# Altium footprint library ACPL-K376-500E.PcbLib: 1 footprints
Each footprint in its own frame and in the unit in brackets; x right, y up, seen from the top. Pads: shape width x height; smd on the part's side, far side on the other; paste and mask are expansions set on the pad; w line width, h text height; cw(c..) or ccw(c..) is an arc to the next point about the centre after c.
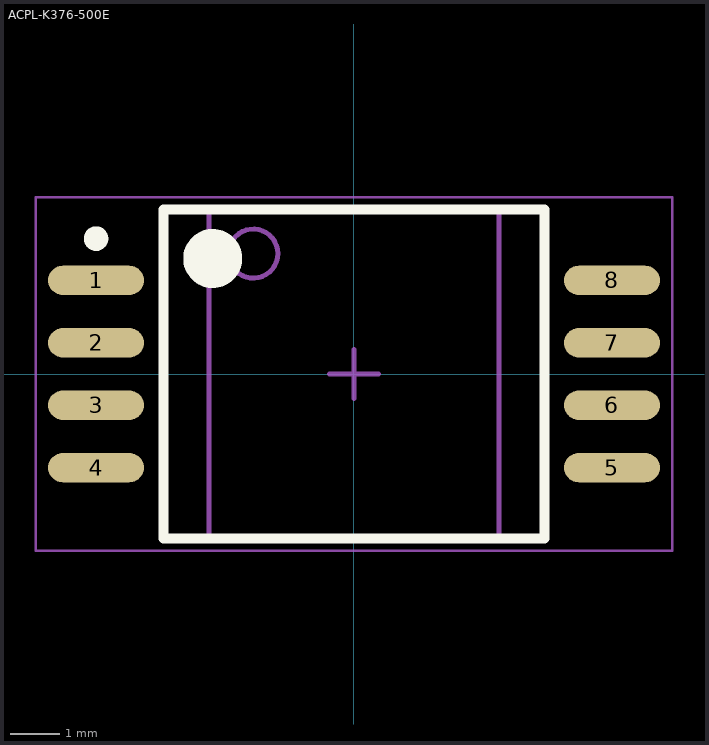
[diagram p0: the footprint, top view; thin cyan lines are the x and y axes]

## ACPL-K376-500E [mm] "SOIC, 8-Leads, Body 6.81x5.85mm, Pitch 1.27mm, IPC Medium Density"
height 3.31
pads (8):
  oval 1.95x0.6 smd: 1(-5.25,1.905) 2(-5.25,0.635) 3(-5.25,-0.635) 4(-5.25,-1.905) 5(5.25,-1.905) 6(5.25,-0.635) 7(5.25,0.635) 8(5.25,1.905)
Top Overlay:
  circle w0.6: c-2.875,2.35 r0.3
  circle w0.25: c-5.25,2.755 r0.125
  lines w0.2: -3.875,-3.35 3.875,-3.35 3.875,3.35 -3.875,3.35 -3.875,-3.35
Mechanical 13:
  circle w0.1: c-2.05,2.45 r0.5
  lines w0.1: -2.95,-3.35 2.95,-3.35 2.95,3.35 -2.95,3.35 -2.95,-3.35
Mechanical 15:
  lines w0.05: -6.475,-3.6 6.475,-3.6 6.475,3.6 -6.475,3.6 -6.475,-3.6
  lines w0.1: -0.5,0 0.5,0 ; 0,-0.5 0,0.5
3D body: height 3.31, standoff 0.1, extent -2.95,-3.35 2.95,3.35